# EAGLE library part ICS-43432 (library LinnesLab-Sensors)
A high performance, low power, digital output, omnidirectional MEMS microphone with a bottom port. Check prices <https://pricing.snapeda.com/search/part/ICS-43432/?ref=eda> Check prices <https://pricing.snapeda.com/search/part/ICS-43432/?ref=eda> Check availability <https://pricing.snapeda.com/parts/ICS-43432/TDK%20InvenSense/view-part?ref=eda> https://www.snapeda.com/parts/ICS-43432/TDK%20InvenSense/view-part/?plugin=snap_extension
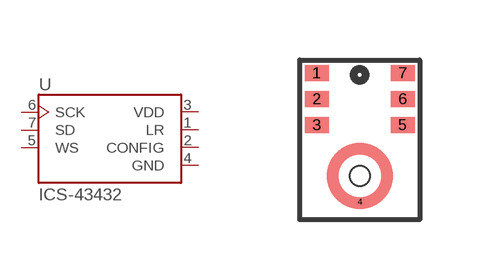
[diagram p34: symbol with the pads of MIC_ICS-43432; footprint MIC_ICS-43432]

Designator prefix U

## ICS-43432 (AVAILABILITY: In Stock; DESCRIPTION: 50 Hz ~ 20 kHz Digital, I²S Microphone MEMS (Silicon) 1.62 V ~ 3.63 V Omnidirectional (-26dB ±1dB @ 94dB SPL) Solder Pads; MF: TDK InvenSense; MP: ICS-43432; PACKAGE: None; PRICE: None; PURCHASE-URL: https://pricing.snapeda.com/search/part/ICS-43432/?ref=eda)  [MIC_ICS-43432]
1  LR  in
2  CONFIG  in
3  VDD  pwr
4  GND  pwr
5  WS  in
6  SCK  in
7  SD  out

## Footprint MIC_ICS-43432 (pad centres in mm)
smd 0.6 x 0.4: 1 -1.075,1.675; 2 -1.075,1.025; 3 -1.075,0.375; 5 1.075,0.375; 6 1.075,1.025; 7 1.075,1.675
smd 0.1 x 0.1: 4 0,-1.55
hole 0.5 at 0,-0.9